# EAGLE library part PIC18F26K83 (library PIC18f26k83)
MCHP-PIC18F26K80-28
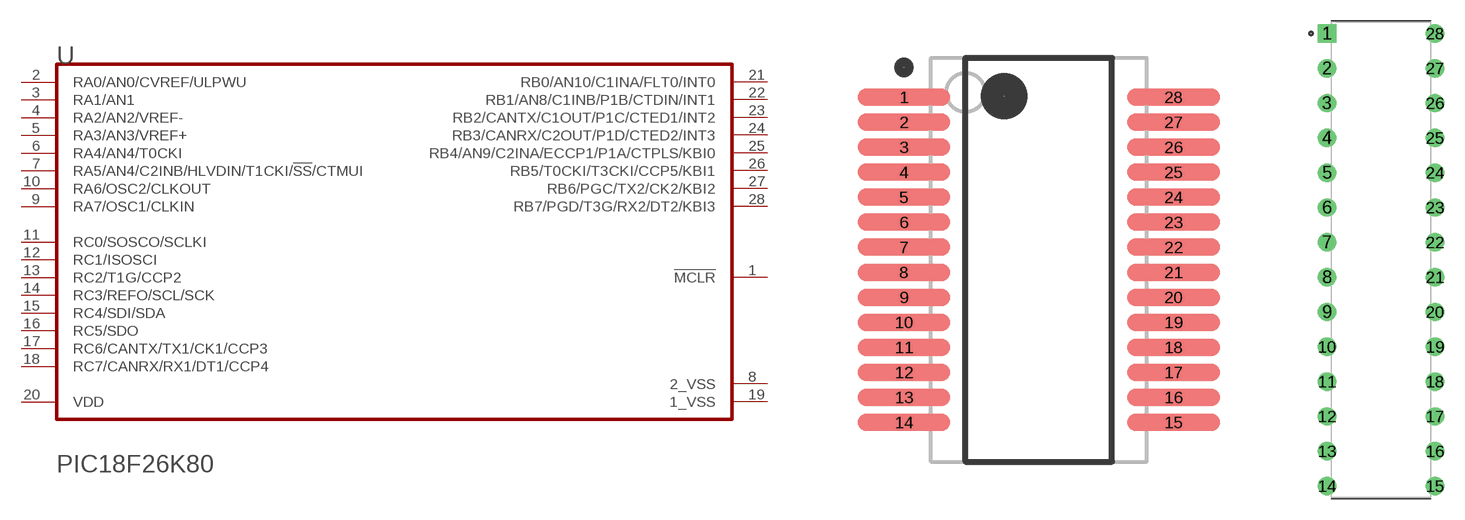
[diagram p0: symbol with the pads of PIC18F26K83_SSOP; footprints PIC18F26K83_SSOP, PIC18F26K83_DIP]

Designator prefix U

## PIC18F26K83PIC18F26K83_SSOP  [PIC18F26K83_SSOP]
1  !MCLR!  in
2  RA0/AN0/CVREF/ULPWU
3  RA1/AN1
4  RA2/AN2/VREF-
5  RA3/AN3/VREF+
6  RA4/AN4/T0CKI
7  RA5/AN4/C2INB/HLVDIN/T1CKI/!SS!/CTMUI
8  2_VSS  pwr
9  RA7/OSC1/CLKIN
10  RA6/OSC2/CLKOUT
11  RC0/SOSCO/SCLKI
12  RC1/ISOSCI
13  RC2/T1G/CCP2
14  RC3/REFO/SCL/SCK
15  RC4/SDI/SDA
16  RC5/SDO
17  RC6/CANTX/TX1/CK1/CCP3
18  RC7/CANRX/RX1/DT1/CCP4
19  1_VSS  pwr
20  VDD  pwr
21  RB0/AN10/C1INA/FLT0/INT0
22  RB1/AN8/C1INB/P1B/CTDIN/INT1
23  RB2/CANTX/C1OUT/P1C/CTED1/INT2
24  RB3/CANRX/C2OUT/P1D/CTED2/INT3
25  RB4/AN9/C2INA/ECCP1/P1A/CTPLS/KBI0
26  RB5/T0CKI/T3CKI/CCP5/KBI1
27  RB6/PGC/TX2/CK2/KBI2
28  RB7/PGD/T3G/RX2/DT2/KBI3

## PIC18F26K83PIC18F26K83_DIP  [PIC18F26K83_DIP]
Pads as for PIC18F26K83_SSOP

## PIC18F26K83PIC18F26K83_SOIC  [PIC18F26K83_SOIC]
Pads as for PIC18F26K83_SSOP

## PIC18F26K83PIC18F26K83_QFN  [PIC18F26K83_QFN]
1  !MCLR!  in
2  RA0/AN0/CVREF/ULPWU
3  RA1/AN1
4  RA2/AN2/VREF-
5  RA3/AN3/VREF+
6  RA4/AN4/T0CKI
7  RA5/AN4/C2INB/HLVDIN/T1CKI/!SS!/CTMUI
8  2_VSS  pwr
9  RA7/OSC1/CLKIN
10  RA6/OSC2/CLKOUT
11  RC0/SOSCO/SCLKI
12  RC1/ISOSCI
13  RC2/T1G/CCP2
14  RC3/REFO/SCL/SCK
15  RC4/SDI/SDA
16  RC5/SDO
17  RC6/CANTX/TX1/CK1/CCP3
18  RC7/CANRX/RX1/DT1/CCP4
19  1_VSS  pwr
20  VDD  pwr
21  RB0/AN10/C1INA/FLT0/INT0
22  RB1/AN8/C1INB/P1B/CTDIN/INT1
23  RB2/CANTX/C1OUT/P1C/CTED1/INT2
24  RB3/CANRX/C2OUT/P1D/CTED2/INT3
25  RB4/AN9/C2INA/ECCP1/P1A/CTPLS/KBI0
26  RB5/T0CKI/T3CKI/CCP5/KBI1
27  RB6/PGC/TX2/CK2/KBI2
28  RB7/PGD/T3G/RX2/DT2/KBI3
29  1_VSS  pwr

## Footprint PIC18F26K83_SSOP (pad centres in mm)
MCHP-PIC18F26K80-28
smd 2.4 x 0.45: 1 -3.5,4.225; 2 -3.5,3.575; 3 -3.5,2.925; 4 -3.5,2.275; 5 -3.5,1.625; 6 -3.5,0.975; 7 -3.5,0.325; 8 -3.5,-0.325; 9 -3.5,-0.975; 10 -3.5,-1.625; 11 -3.5,-2.275; 12 -3.5,-2.925; 13 -3.5,-3.575; 14 -3.5,-4.225; 15 3.5,-4.225; 16 3.5,-3.575; 17 3.5,-2.925; 18 3.5,-2.275; 19 3.5,-1.625; 20 3.5,-0.975; 21 3.5,-0.325; 22 3.5,0.325; 23 3.5,0.975; 24 3.5,1.625; 25 3.5,2.275; 26 3.5,2.925; 27 3.5,3.575; 28 3.5,4.225

## Footprint PIC18F26K83_DIP (pad centres in mm)
drill 0.83 pad 1.25 square: 1 -3.937,16.51
drill 0.83 pad 1.25: 2 -3.937,13.97; 3 -3.937,11.43; 4 -3.937,8.89; 5 -3.937,6.35; 6 -3.937,3.81; 7 -3.937,1.27; 8 -3.937,-1.27; 9 -3.937,-3.81; 10 -3.937,-6.35; 11 -3.937,-8.89; 12 -3.937,-11.43; 13 -3.937,-13.97; 14 -3.937,-16.51; 15 3.937,-16.51; 16 3.937,-13.97; 17 3.937,-11.43; 18 3.937,-8.89; 19 3.937,-6.35; 20 3.937,-3.81; 21 3.937,-1.27; 22 3.937,1.27; 23 3.937,3.81; 24 3.937,6.35; 25 3.937,8.89; 26 3.937,11.43; 27 3.937,13.97; 28 3.937,16.51

## Footprint PIC18F26K83_SOIC (pad centres in mm)
smd 1.9 x 0.6: 1 -4.605,8.255; 2 -4.605,6.985; 3 -4.605,5.715; 4 -4.605,4.445; 5 -4.605,3.175; 6 -4.605,1.905; 7 -4.605,0.635; 8 -4.605,-0.635; 9 -4.605,-1.905; 10 -4.605,-3.175; 11 -4.605,-4.445; 12 -4.605,-5.715; 13 -4.605,-6.985; 14 -4.605,-8.255; 15 4.605,-8.255; 16 4.605,-6.985; 17 4.605,-5.715; 18 4.605,-4.445; 19 4.605,-3.175; 20 4.605,-1.905; 21 4.605,-0.635; 22 4.605,0.635; 23 4.605,1.905; 24 4.605,3.175; 25 4.605,4.445; 26 4.605,5.715; 27 4.605,6.985; 28 4.605,8.255

## Footprint PIC18F26K83_QFN (pad centres in mm)
PIC18F26K83_QFN
smd 0.8 x 0.3: 1 -3.05,1.95; 2 -3.05,1.3; 3 -3.05,0.65; 4 -3.05,0; 5 -3.05,-0.65; 6 -3.05,-1.3; 7 -3.05,-1.95; 15 3.05,-1.95; 16 3.05,-1.3; 17 3.05,-0.65; 18 3.05,0; 19 3.05,0.65; 20 3.05,1.3; 21 3.05,1.95
smd 0.3 x 0.8: 8 -1.95,-3.05; 9 -1.3,-3.05; 10 -0.65,-3.05; 11 0,-3.05; 12 0.65,-3.05; 13 1.3,-3.05; 14 1.95,-3.05; 22 1.95,3.05; 23 1.3,3.05; 24 0.65,3.05; 25 0,3.05; 26 -0.65,3.05; 27 -1.3,3.05; 28 -1.95,3.05
smd 4.18 x 4.18: 29 0,0